# Altium schematic symbol library Electrode_Array_Hex.SchLib: 1 symbol
Pins are listed as number, name and electrical type; pins without a type are passive.

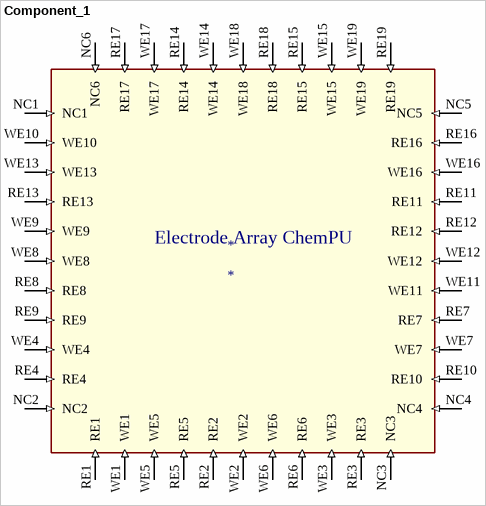
[diagram p0: symbol Component_1]

## Component_1
designator *
footprint PCBComponent_1
pins: NC1 (in), NC2 (in), NC3 (in), NC4 (in), NC5 (in), NC6 (in), RE1 (in), RE2 (in), RE3 (in), RE4 (in), RE5 (in), RE6 (in), RE7 (in), RE8 (in), RE9 (in), RE10 (in), RE11 (in), RE12 (in), RE13 (in), RE14 (in), RE15 (in), RE16 (in), RE17 (in), RE18 (in), RE19 (in), WE1 (in), WE2 (in), WE3 (in), WE4 (in), WE5 (in), WE6 (in), WE7 (in), WE8 (in), WE9 (in), WE10 (in), WE11 (in), WE12 (in), WE13 (in), WE14 (in), WE15 (in), WE16 (in), WE17 (in), WE18 (in), WE19 (in)
text: Electrode Array ChemPU